# Altium footprint library L3G4200D.PcbLib: 4 footprints
Each footprint in its own frame and in the unit in brackets; x right, y up, seen from the top. Pads: shape width x height; smd on the part's side, far side on the other; paste and mask are expansions set on the pad; w line width, h text height; cw(c..) or ccw(c..) is an arc to the next point about the centre after c.
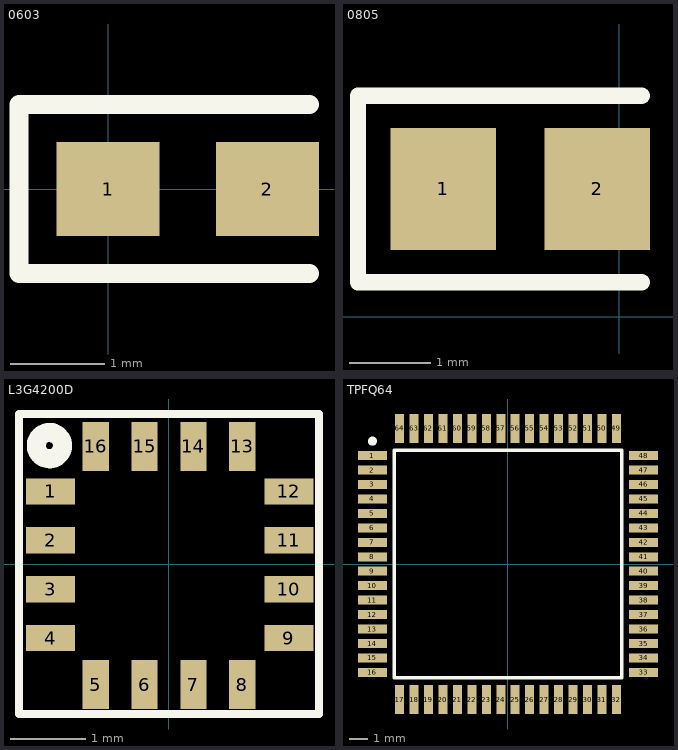
[diagram p0: the footprints below, top view; thin cyan lines are the x and y axes]

## 0603 [mm] "0603"
pads (2):
  rect 1.1x1 smd: 1(0,0) 2(1.7,0)
Top Overlay:
  lines w0.2: 2.15,-0.9 -0.95,-0.9 -0.95,0.9 2.15,0.9

## 0805 [mm]
pads (2):
  rect 1.3x1.5 smd: 1(-2.175,1.575) 2(-0.275,1.575)
Top Overlay:
  lines w0.2: 0.275,0.425 -3.225,0.425 -3.225,2.725 0.275,2.725

## L3G4200D [mm] "Giro 3-Axis"
pads (16):
  rect 0.65x0.35 smd: 1(-1.57,0.97) 2(-1.57,0.32) 3(-1.57,-0.33) 4(-1.57,-0.98) 9(1.6,-0.98) 10(1.6,-0.33) 11(1.6,0.32) 12(1.6,0.97)
  rect 0.35x0.65 smd: 5(-0.97,-1.6) 6(-0.32,-1.6) 7(0.33,-1.6) 8(0.98,-1.6) 13(0.98,1.57) 14(0.33,1.57) 15(-0.32,1.57) 16(-0.97,1.57)
Top Overlay:
  circle w0.254: c-1.585,1.58 r0.175
  lines w0.1: -1.99,-1.99 -1.99,2 2,2 2,-1.99 -1.99,-1.99

## TPFQ64 [mm] "AT90USB1287-TPFQ64"
pads (64):
  rect 1.6x0.5 smd: 1(-7.5,6) 2(-7.5,5.2) 3(-7.5,4.4) 4(-7.5,3.6) 5(-7.5,2.8) 6(-7.5,2) 7(-7.5,1.2) 8(-7.5,0.4) 9(-7.5,-0.4) 10(-7.5,-1.2) 11(-7.5,-2) 12(-7.5,-2.8) 13(-7.5,-3.6) 14(-7.5,-4.4) 15(-7.5,-5.2) 16(-7.5,-6) 33(7.5,-6) 34(7.5,-5.2) 35(7.5,-4.4) 36(7.5,-3.6) 37(7.5,-2.8) 38(7.5,-2) 39(7.5,-1.2) 40(7.5,-0.4) 41(7.5,0.4) 42(7.5,1.2) 43(7.5,2) 44(7.5,2.8) 45(7.5,3.6) 46(7.5,4.4) 47(7.5,5.2) 48(7.5,6)
  rect 0.5x1.6 smd: 17(-6,-7.5) 18(-5.2,-7.5) 19(-4.4,-7.5) 20(-3.6,-7.5) 21(-2.8,-7.5) 22(-2,-7.5) 23(-1.2,-7.5) 24(-0.4,-7.5) 25(0.4,-7.5) 26(1.2,-7.5) 27(2,-7.5) 28(2.8,-7.5) 29(3.6,-7.5) 30(4.4,-7.5) 31(5.2,-7.5) 32(6,-7.5) 49(6,7.5) 50(5.2,7.5) 51(4.4,7.5) 52(3.6,7.5) 53(2.8,7.5) 54(2,7.5) 55(1.2,7.5) 56(0.4,7.5) 57(-0.4,7.5) 58(-1.2,7.5) 59(-2,7.5) 60(-2.8,7.5) 61(-3.6,7.5) 62(-4.4,7.5) 63(-5.2,7.5) 64(-6,7.5)
Top Overlay:
  circle w0.25: c-7.5,6.8 r0.125
  lines w0.2: -6.3,-6.3 6.3,-6.3 6.3,6.3 -6.3,6.3 -6.3,-6.3